# Altium schematic symbol library Smart_Pillbox_RF03.SCHLIB: 39 symbols
Pins are listed as number, name and electrical type; pins without a type are passive.

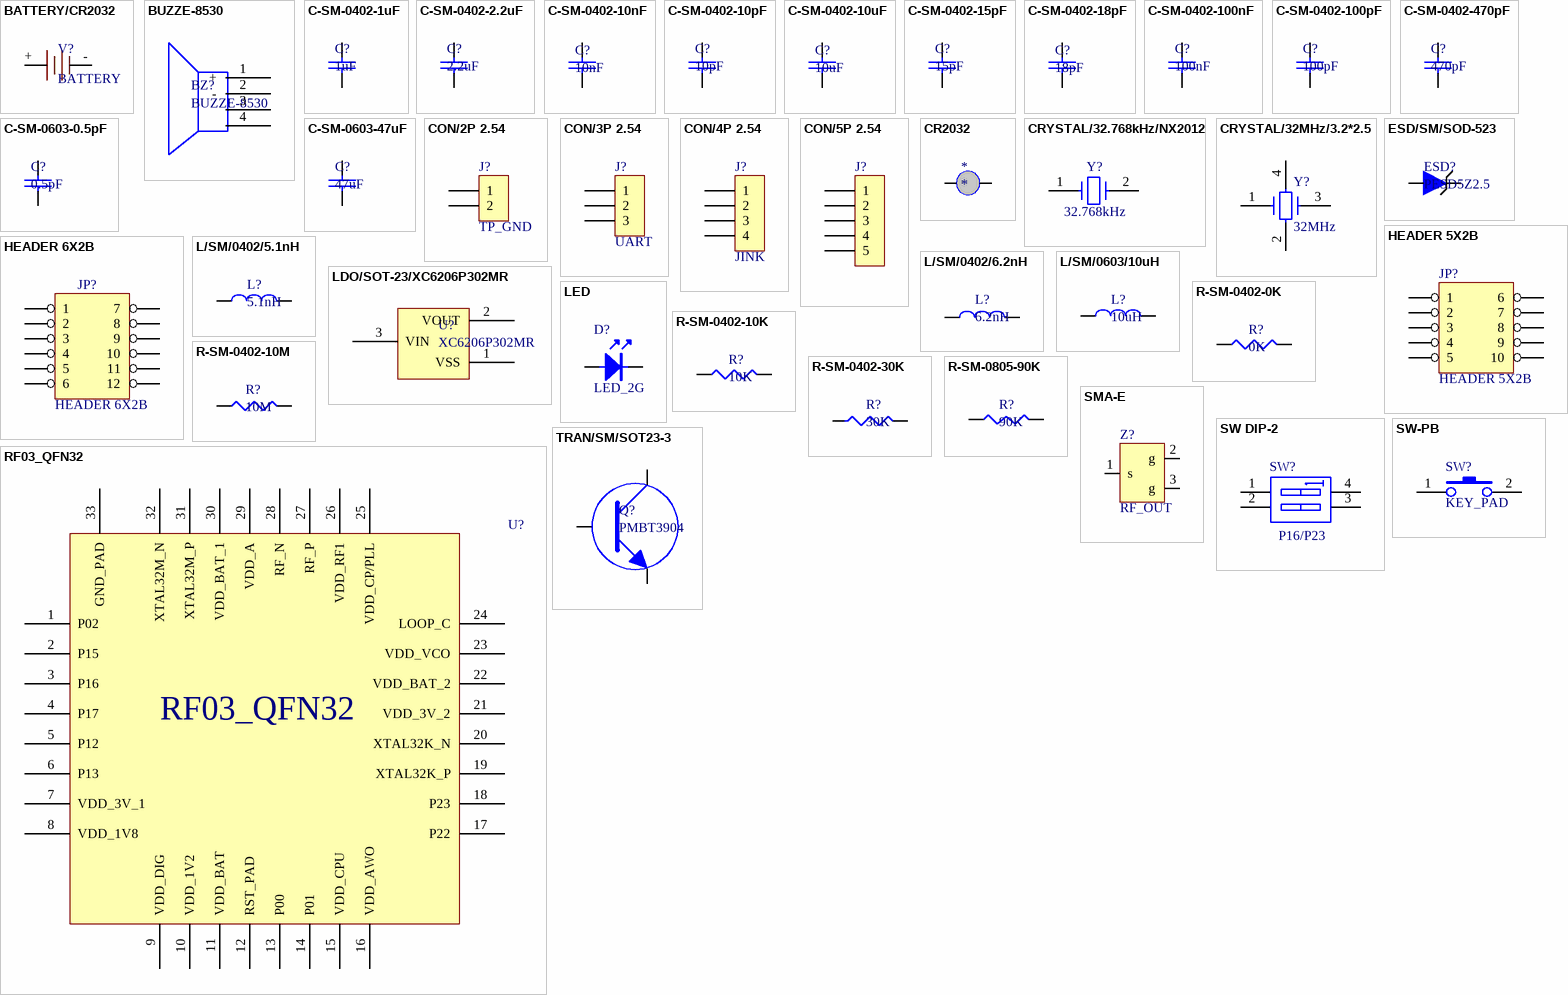
[diagram p0: symbols BATTERY/CR2032 to TRAN/SM/SOT23-3]

## BATTERY/CR2032
designator V?, comment BATTERY
Battery CR2032
pins: + 1, - 2

## BUZZE-8530
designator BZ?
value: BUZZE-8530
pins: 1 +, 2 -, 3, 4

## C-SM-0402-1uF
designator C?, comment 1uF
Chip C
pins: 1, 2

## C-SM-0402-2.2uF
designator C?, comment 2.2uF
Chip C
pins: 1, 2

## C-SM-0402-10nF
designator C?, comment 10nF
Chip C
pins: 1, 2

## C-SM-0402-10pF
designator C?, comment 10pF
Chip C
pins: 1, 2

## C-SM-0402-10uF
designator C?, comment 10uF
Chip C
pins: 1, 2

## C-SM-0402-15pF
designator C?, comment 15pF
Chip C
pins: 1, 2

## C-SM-0402-18pF
designator C?, comment 18pF
Chip C
pins: 1, 2

## C-SM-0402-100nF
designator C?, comment 100nF
Chip C
pins: 1, 2

## C-SM-0402-100pF
designator C?, comment 100pF
Chip C
pins: 1, 2

## C-SM-0402-470pF
designator C?, comment 470pF
Chip C
pins: 1, 2

## C-SM-0603-0.5pF
designator C?, comment 0.5pF
Chip C
pins: 1, 2

## C-SM-0603-47uF
designator C?, comment 47uF
Chip C
pins: 1, 2

## CON/2P 2.54
designator J?, comment TP_GND
Hole 40mil
footprint HDR2_2.54
pins: 1, 2

## CON/3P 2.54
designator J?, comment UART
Hole 40mil
footprint HDR3_2.54
pins: 1, 2, 3

## CON/4P 2.54
designator J?, comment JINK
Hole 40mil
footprint HDR4_2.54
pins: 1, 2, 3, 4

## CON/5P 2.54
designator J?
Hole 40mil
footprint HDR5_2.54
pins: 1, 2, 3, 4, 5

## CR2032
designator *
pins: 1, 2

## CRYSTAL/32.768kHz/NX2012
designator Y?, comment 32.768kHz
NX2012SA 32.768K
footprint XTAL-XB
footprint bx-nx2012-32.768kHz
pins: 1, 2

## CRYSTAL/32MHz/3.2*2.5
designator Y?, comment 32MHz
X322532MOB4SI
footprint XTAL-XB
footprint CX-101F
footprint CX-101F
pins: 1, 2, 3, 4

## ESD/SM/SOD-523
designator ESD?, comment PESD5Z2.5
PESD5Z2.5,115
pins: 1, 2

## HEADER 5X2B
designator JP?
Pitch 2.54mm
footprint HDR5X2B
pins: 1, 2, 3, 4, 5, 6, 7, 8, 9, 10

## HEADER 6X2B
designator JP?
Pitch 2.54mm
footprint HDR6X2B
pins: 1, 2, 3, 4, 5, 6, 7, 8, 9, 10, 11, 12

## L/SM/0402/5.1nH
designator L?, comment 5.1nH
LQG15HS5N1S02D
pins: 1, 2

## L/SM/0402/6.2nH
designator L?, comment 6.2nH
MLG1005S6N2ST000
pins: 1, 2

## L/SM/0603/10uH
designator L?, comment 10uH
MCL1608S100MT
pins: 1, 2

## LDO/SOT-23/XC6206P302MR
designator U?, comment XC6206P302MR
Chip LDO XC6206P302MR
pins: 1 VSS, 2 VOUT, 3 VIN

## LED
designator D?, comment LED_2G
footprint LED
footprint 1005
pins: 1 A, 2 K

## R-SM-0402-0K
designator R?, comment 0K
Chip R
pins: 1, 2

## R-SM-0402-10K
designator R?, comment 10K
Chip R
pins: 1, 2

## R-SM-0402-10M
designator R?, comment 10M
Chip R
pins: 1, 2

## R-SM-0402-30K
designator R?, comment 30K
Chip R
pins: 1, 2

## R-SM-0805-90K
designator R?, comment 90K
Chip R
pins: 1, 2

## RF03_QFN32
designator U?
footprint QFN32_4X4
footprint QFN32_4x4_Socket
pins: 1 P02, 2 P15, 3 P16, 4 P17, 5 P12, 6 P13, 7 VDD_3V_1, 8 VDD_1V8, 9 VDD_DIG, 10 VDD_1V2, 11 VDD_BAT, 12 RST_PAD, 13 P00, 14 P01, 15 VDD_CPU, 16 VDD_AWO, 17 P22, 18 P23, 19 XTAL32K_P, 20 XTAL32K_N, 21 VDD_3V_2, 22 VDD_BAT_2, 23 VDD_VCO, 24 LOOP_C, 25 VDD_CP/PLL, 26 VDD_RF1, 27 RF_P, 28 RF_N, 29 VDD_A, 30 VDD_BAT_1, 31 XTAL32M_P, 32 XTAL32M_N, 33 GND_PAD

## SMA-E
designator Z?, comment RF_OUT
footprint SMA-E
pins: 1 s, 2 g, 3 g

## SW DIP-2
designator SW?, comment P16/P23
DIP Switch
footprint SW2
footprint SW-2P
pins: 1 A1, 2 A2, 3 B2, 4 B1

## SW-PB
designator SW?, comment KEY_PAD
footprint SW4
footprint SW4P-SMD4P
pins: 1, 2

## TRAN/SM/SOT23-3
designator Q?, comment PMBT3904
NPN Switching transistor
pins: 1, 2, 3